# EAGLE library part 219-04 (library switch-dil)
DIP SWITCH
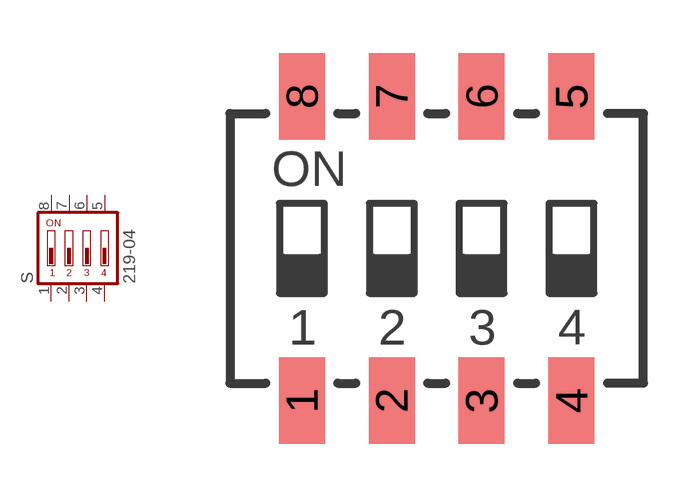
[diagram p62: symbol with the pads of 219-04; footprint 219-04]

Designator prefix S

## 219-04  [219-04]
1  1  pas
2  2  pas
3  3  pas
4  4  pas
5  5  pas
6  6  pas
7  7  pas
8  8  pas

## Footprint 219-04 (pad centres in mm)
DIP SWITCH SMT 219 Series, CTS Electrocomponents
smd 1.3 x 2.44: 1 -3.81,-4.3; 2 -1.27,-4.3; 3 1.27,-4.3; 4 3.81,-4.3; 5 3.81,4.3; 6 1.27,4.3; 7 -1.27,4.3; 8 -3.81,4.3